# Altium schematic symbol library SW_SPDT.SchLib: 1 symbol
Pins are listed as number, name and electrical type; pins without a type are passive.

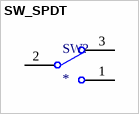
[diagram p0: symbol SW_SPDT]

## SW_SPDT
designator SW?
pins: 1, 2, 3